# Altium schematic symbol library BasicosyConectores.SchLib: 25 symbols
Pins are listed as number, name and electrical type; pins without a type are passive.

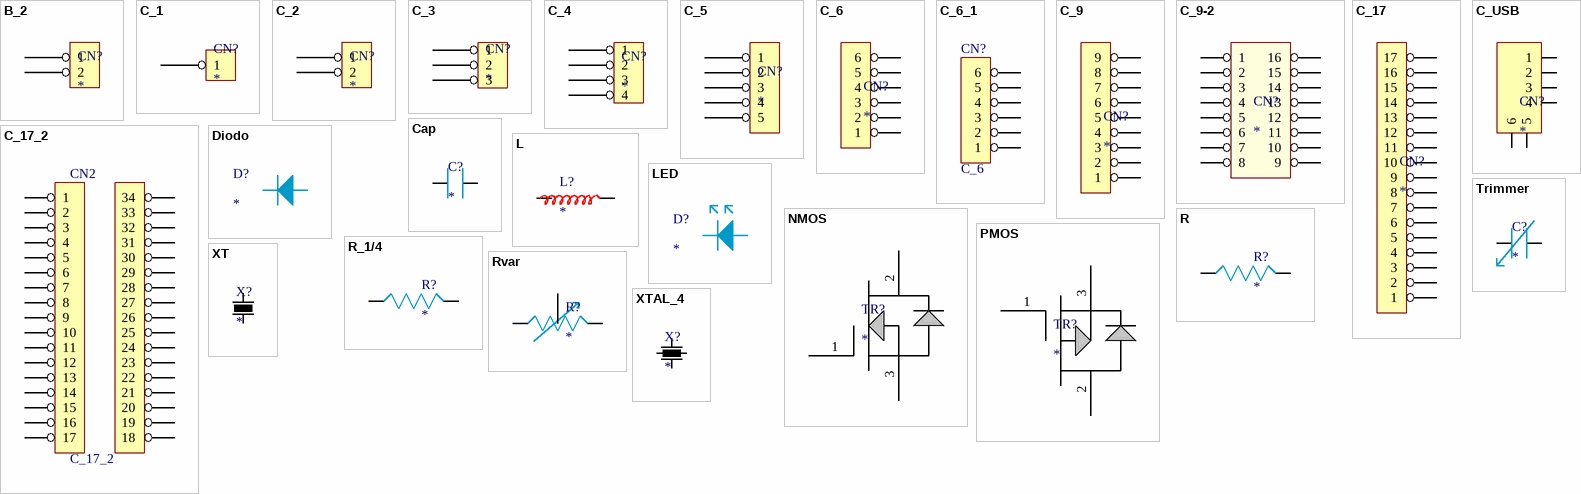
[diagram p0: symbols B_2 to XTAL_4]

## B_2
designator CN?
Bornera x2
footprint 2x1 Bornera (Bornera)
pins: 1, 2

## C_1
designator CN?
Conector 1 pines
pins: 1

## C_2
designator CN?
Conector 2 pines
pins: 1, 2

## C_3
designator CN?
Conector 3 pines
pins: 1, 2, 3

## C_4
designator CN?
Conector 4 pines
pins: 1, 2, 3, 4

## C_5
designator CN?
Conector 5 pines
pins: 1, 2, 3, 4, 5

## C_6
designator CN?
Connector 6 pins
pins: 1, 2, 3, 4, 5, 6

## C_6_1
designator CN?, comment C_6
Connector 6 pins
pins: 1, 2, 3, 4, 5, 6

## C_9
designator CN?
Connector 9 pins
footprint 9x1 Pin Array (Tira de pines)
pins: 1, 2, 3, 4, 5, 6, 7, 8, 9

## C_9-2
designator CN?
Connector 9 pins
footprint PDIP_8
pins: 1, 2, 3, 4, 5, 6, 7, 8, 9, 10, 11, 12, 13, 14, 15, 16

## C_17
designator CN?
Connector 17 pins
footprint 17x1 Pin Array - duplicate (Tira de pines)
pins: 1, 2, 3, 4, 5, 5 10, 6, 6 11, 7, 7 12, 8, 8 13, 9, 9 14, 9 15, 9 16, 9 17

## C_17_2
designator CN2
Connector 17 pins
footprint Footprint ARDUINO (17 PINES X2 COLUMNAS)
pins: 1, 2, 3, 4, 5, 6, 7, 8, 9, 10, 11, 12, 13, 14, 15, 16, 17, 18, 19, 20, 21, 22, 23, 24, 25, 26, 27, 28, 29, 30, 31, 32, 33, 34

## C_USB
designator CN?
Conector USB
pins: 1, 2, 3, 4, 5 (power), 6

## Cap
designator C?
Capacitor
footprint C_Ceramic (Ceramic Capacitor)
pins: 1, 2

## Diodo
designator D?
Diode
footprint D_1/4 (Diodo de 1/4 W)
pins: 1, 2

## L
designator L?
SMD Inductor
pins: 1, 2
1 alternate drawing of the same symbol

## LED
designator D?
Diode Led
pins: 1, 2

## NMOS
designator TR?
Mosfet N
footprint TO220 (TO, Thru-Hole, Vertical, Heatsink Mounted; 3 In-Line Leads; Pitch 2.54 mm; Pin sequence 1, 3, 2)
pins: 1 "Gate", 2 "Drain", 3 "Source"

## PMOS
designator TR?
Mosfet P
footprint TO220 (TO, Thru-Hole, Vertical, Heatsink Mounted; 3 In-Line Leads; Pitch 2.54 mm; Pin sequence 1, 3, 2)
pins: 1 "Gate", 2 "Source", 3 "Drain"

## R
designator R?
Chip Resistor
pins: 1, 2
1 alternate drawing of the same symbol

## R_1/4
designator R?
Chip Resistor
footprint R_1/4 (Resistencia de 1/4 W)
pins: 1, 2
1 alternate drawing of the same symbol

## Rvar
designator R?
SMD Potentiometer
pins: 1, 2, 3
1 alternate drawing of the same symbol

## Trimmer
designator C?
Capacitor Variable
footprint TZY2
pins: 1, 2

## XT
designator X?
Cristal
footprint XT_MA_505 (Crystal SMD MA-505)
pins: 1, 2

## XTAL_4
designator X?
Cristal
pins: 1, 2, 3, 4